# EAGLE library part TC7WH123FU (library toshiba)
IC MULTIVIBRATOR MONOSTABLE SM8
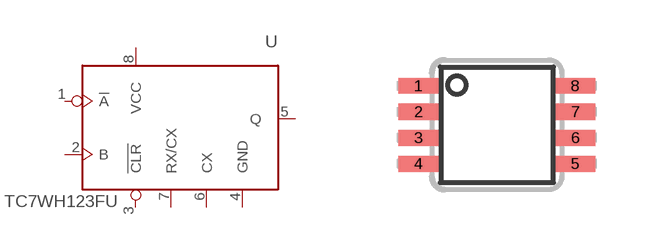
[diagram p0: symbol with the pads of MSOP08; footprint MSOP08]

Designator prefix U

## TC7WH123FU (DIGIKEY: TC7WH123FUTE12LFCT-ND; P1I: o)  [MSOP08]
1  !A
2  B
3  !CLR
4  GND
5  Q
6  CX
7  RX/CX
8  VCC

## Footprint MSOP08 (pad centres in mm)
8-Lead micro SO (RM-8) Source: http://www.analog.com/UploadedFiles/Data_Sheets/703465986AD8611_2_0.pdf
smd 1 x 0.4: 1 -1.963,0.976; 2 -1.963,0.326; 3 -1.963,-0.324; 4 -1.963,-0.974; 5 1.962,-0.974; 6 1.962,-0.324; 7 1.962,0.326; 8 1.962,0.976